# EAGLE library part SN75ALS193 (library robotter_ic)
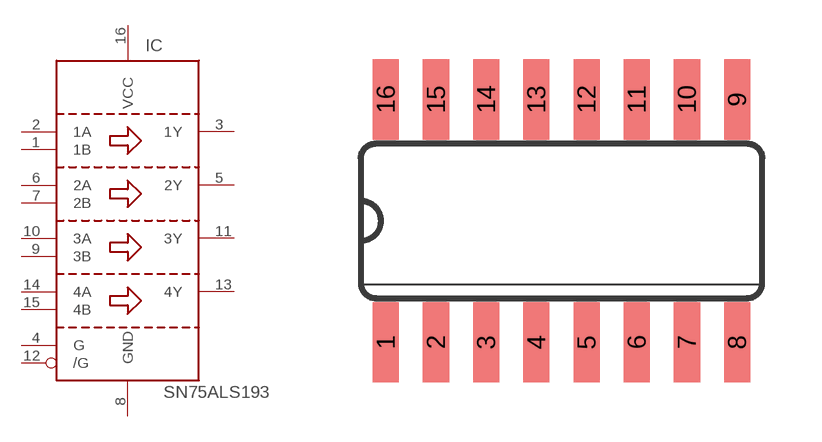
[diagram p23: symbol with the pads of SO16; footprint SO16]

Designator prefix IC

## SN75ALS193DRE4 (MOUSER: 595-SN75ALS193D; RS: 660-9256; VALUE: SN75ALS193DRE4)  [SO16]
1  1B
2  1A
3  1Y
4  G
5  2Y
6  2A
7  2B
8  GND  pwr
9  3B
10  3A
11  3Y
12  /G
13  4Y
14  4A
15  4B
16  VCC  pwr

## Footprint SO16 (pad centres in mm)
Small Outline Package .150 SIOC Source: http://www.maxim-ic.com/package_drawings/21-0041B.pdf
smd 0.66 x 2.032: 1 -4.445,-3.073; 2 -3.175,-3.073; 3 -1.905,-3.073; 4 -0.635,-3.073; 5 0.635,-3.073; 6 1.905,-3.073; 7 3.175,-3.073; 8 4.445,-3.073; 9 4.445,3.073; 10 3.175,3.073; 11 1.905,3.073; 12 0.635,3.073; 13 -0.635,3.073; 14 -1.905,3.073; 15 -3.175,3.073; 16 -4.445,3.073